# Altium schematic symbol library JCD0624S12.SchLib: 2 symbols
Pins are listed as number, name and electrical type; pins without a type are passive.

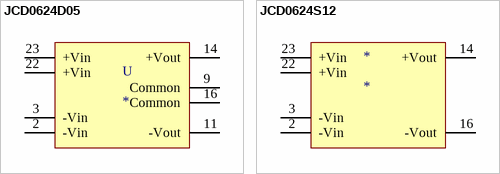
[diagram p0: symbols JCD0624D05 to JCD0624S12]

## JCD0624D05
designator U
DC/DC CONVERTER, 6W, +/-5V, DIP-24; farnell: 2065315
footprint DIP24
pins: 2 -Vin (power), 3 -Vin (power), 9 Common (power), 11 -Vout (power), 14 +Vout (power), 16 Common (power), 22 +Vin (power), 23 +Vin (power)

## JCD0624S12
designator *
DC/DC CONVERTER, 6W, 12V, DIP-24; farnell: 2065294
pins: 2 -Vin (power), 3 -Vin (power), 14 +Vout (power), 16 -Vout (power), 22 +Vin (power), 23 +Vin (power)